# Altium footprint library WCAP-SISC.PcbLib: 2 footprints
Each footprint in its own frame and in the unit in brackets; x right, y up, seen from the top. Pads: shape width x height; smd on the part's side, far side on the other; paste and mask are expansions set on the pad; w line width, h text height; cw(c..) or ccw(c..) is an arc to the next point about the centre after c.
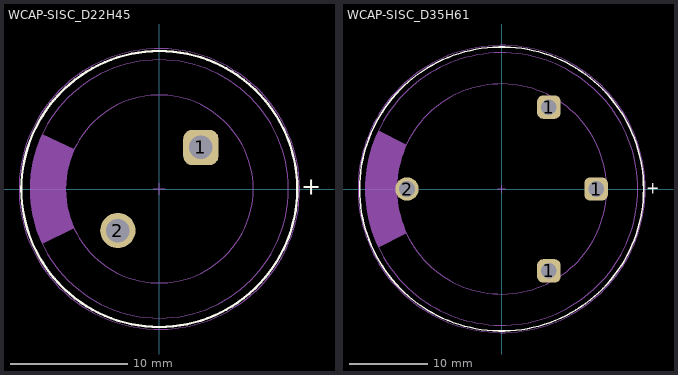
[diagram p0: the footprints below, top view; thin cyan lines are the x and y axes]

## WCAP-SISC_D22H45 [mm] "2-Pin Electrolytic Capacitor Supercapacitor, D22xH46mm"
height 46
pads (2):
  rrect50% 3x3 hole 2: 1(3.536,3.536)
  round 3 hole 2: 2(-3.536,-3.536)
Top Overlay:
  circle w0.2: c0,0 r11.75
  text "+" at 12.1,-0.5 h1.5
Top Designator:
  text ".Designator" at -7.498,-0.5 h1.5
Top Component Outline:
  circle w0.1: c0,0 r11
  circle w0.1: c0,0 r8
  region: -9.968,-4.651 -7.267,-3.345 -7.265,-3.349 -7.436,-2.951 -7.712,-2.129 -7.897,-1.282 -7.989,-0.42 -7.988,0.447 -7.892,1.308 -7.704,2.154 -7.426,2.975 -7.254,3.373 -7.256,3.369 -9.957,4.675 -10.128,4.311 -10.415,3.562 -10.647,2.793 -10.822,2.009 -10.94,1.215 -11,0.415 -11,-0.388 -10.943,-1.189 -10.827,-1.984 -10.654,-2.768 -10.424,-3.537 -10.138,-4.287
Top 3D Body:
  circle w0.1: c0,0 r8
  circle w0.1: c0,0 r11
  region: -9.968,-4.651 -7.267,-3.345 -7.265,-3.349 -7.436,-2.951 -7.712,-2.129 -7.897,-1.282 -7.989,-0.42 -7.988,0.447 -7.892,1.308 -7.704,2.154 -7.426,2.975 -7.254,3.373 -7.256,3.369 -9.957,4.675 -10.128,4.311 -10.415,3.562 -10.647,2.793 -10.822,2.009 -10.94,1.215 -11,0.415 -11,-0.388 -10.943,-1.189 -10.827,-1.984 -10.654,-2.768 -10.424,-3.537 -10.138,-4.287
Top Courtyard:
  circle w0.05: c0,0 r11.95
  lines w0.05: -0.5,0 0.5,0 ; 0,-0.5 0,0.5
3D body "22x46x10.stp": height 46.04, standoff -5.56, extent -10.99,-10.997 11,10.997

## WCAP-SISC_D35H61 [mm] "2-Pin Electrolytic Capacitor Supercapacitor, D35xH61mm"
height 61
pads (4):
  rrect50% 3x3 hole 2: 1(6.075,-10.522) 1(6.075,10.522) 1(12.15,0)
  round 3 hole 2: 2(-12.15,0)
Top Overlay:
  circle w0.2: c0,0 r18.25
  text "+" at 18.6,-0.6 h1.5
Top Designator:
  text ".Designator" at -7.498,-0.5 h1.5
Top Component Outline:
  circle w0.1: c0,0 r17.5
  circle w0.1: c0,0 r13.5
  region: -15.809,-7.506 -16.086,-6.922 -16.553,-5.715 -16.93,-4.478 -17.214,-3.217 -17.404,-1.937 -17.5,-0.647 -17.5,0.646 -17.405,1.936 -17.214,3.215 -16.93,4.477 -16.553,5.714 -16.087,6.92 -15.809,7.504 -15.809,7.506 -12.249,5.676 -12.446,5.23 -12.791,4.317 -13.07,3.381 -13.28,2.428 -13.421,1.462 -13.491,0.488 -13.491,-0.488 -13.421,-1.462 -13.28,-2.428 -13.07,-3.381 -12.791,-4.317 -12.446,-5.23 -12.249,-5.676
Top 3D Body:
  circle w0.1: c0,0 r13.5
  circle w0.1: c0,0 r17.5
  region: -15.809,-7.506 -16.086,-6.922 -16.553,-5.715 -16.93,-4.478 -17.214,-3.217 -17.404,-1.937 -17.5,-0.647 -17.5,0.646 -17.405,1.936 -17.214,3.215 -16.93,4.477 -16.553,5.714 -16.087,6.92 -15.809,7.504 -15.809,7.506 -12.249,5.676 -12.446,5.23 -12.791,4.317 -13.07,3.381 -13.28,2.428 -13.421,1.462 -13.491,0.488 -13.491,-0.488 -13.421,-1.462 -13.28,-2.428 -13.07,-3.381 -12.791,-4.317 -12.446,-5.23 -12.249,-5.676
Top Courtyard:
  circle w0.05: c0,0 r18.45
  lines w0.05: -0.5,0 0.5,0 ; 0,-0.5 0,0.5
3D body "35x61x24.3.stp": height 61.04, standoff -5.56, extent -17.49,-17.5 17.5,17.5